# Altium footprint library BATT-CR2032.PcbLib: 1 footprints
Each footprint in its own frame and in the unit in brackets; x right, y up, seen from the top. Pads: shape width x height; smd on the part's side, far side on the other; paste and mask are expansions set on the pad; w line width, h text height; cw(c..) or ccw(c..) is an arc to the next point about the centre after c.
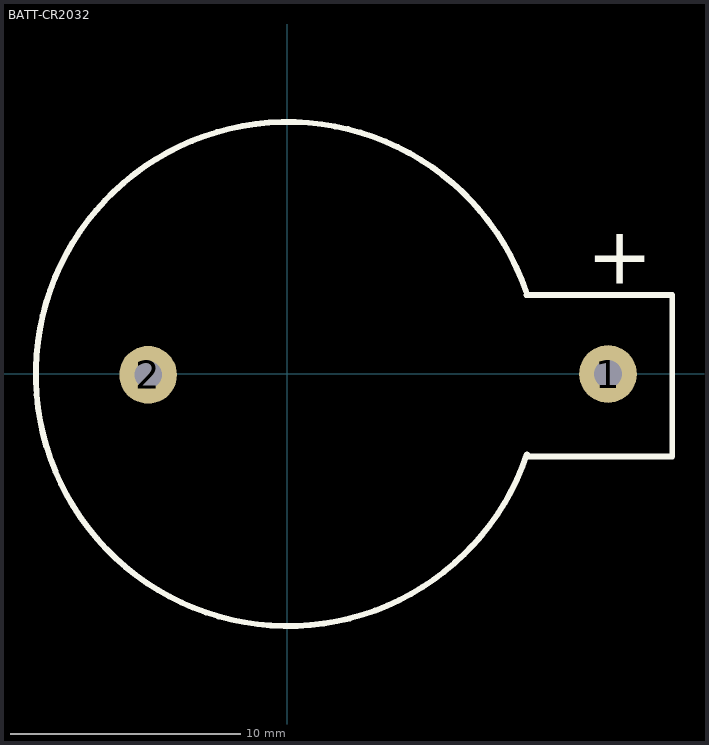
[diagram p0: the footprint, top view; thin cyan lines are the x and y axes]

## BATT-CR2032 [mm]
pads (2):
  round 2.5 hole 1.2: 1(13.904,-0.015) 2(-6.036,-0.049)
Top Overlay:
  lines w0.254: 10.36,3.41 16.686,3.41 16.686,-3.59 10.386,-3.59 ; 10.36,3.541 ccw(c0.023,-0.013) 10.386,-3.49
  text "+" at 12.986,3.91 h2.5
3D body "BATTERY HOLDER CR2032.STEP": height 7.91, standoff -3, extent -11.614,-11.49 16.886,11.51